# EAGLE library part HDMI_10029449-111RLF (library JOSHUA)
HDMI ( 10029449-111RLF )
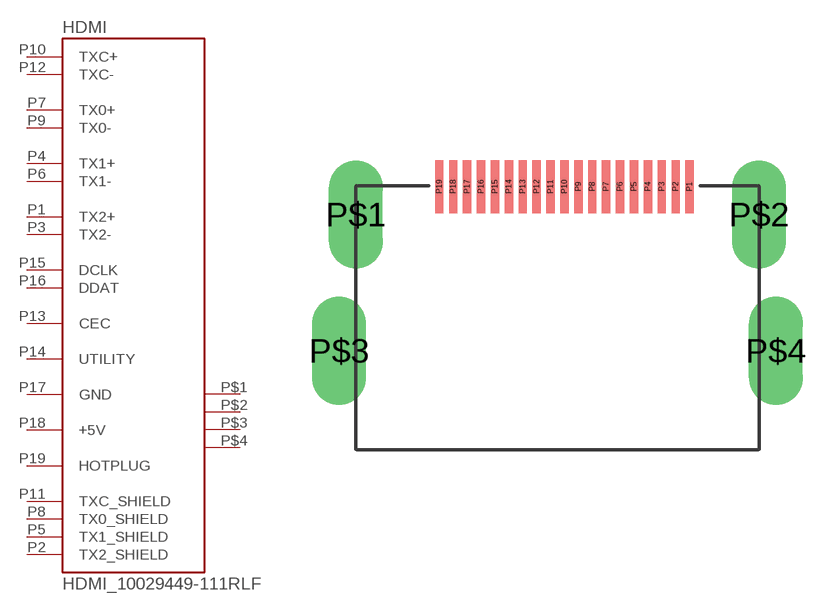
[diagram p1: symbol with the pads of HDMI_MOLEX_10029449; footprint HDMI_MOLEX_10029449]

Designator prefix HDMI

## HDMI_10029449-111RLF  [HDMI_MOLEX_10029449]
P1  TX2+
P2  TX2_SHIELD
P3  TX2-
P4  TX1+
P5  TX1_SHIELD
P6  TX1-
P7  TX0+
P8  TX0_SHIELD
P9  TX0-
P10  TXC+
P11  TXC_SHIELD
P12  TXC-
P13  CEC
P14  UTILITY
P15  DCLK
P16  DDAT
P17  GND
P18  +5V
P19  HOTPLUG
P$1  P$1
P$2  P$2
P$3  P$3
P$4  P$4

## Footprint HDMI_MOLEX_10029449 (pad centres in mm)
smd 0.3 x 1.9: P1 4.75,1; P2 4.25,1; P3 3.75,1; P4 3.25,1; P5 2.75,1; P6 2.25,1; P7 1.75,1; P8 1.25,1; P9 0.75,1; P10 0.25,1; P11 -0.25,1; P12 -0.75,1; P13 -1.25,1; P14 -1.75,1; P15 -2.25,1; P16 -2.75,1; P17 -3.25,1; P18 -3.75,1; P19 -4.25,1
drill 1.3 long: P$1 -7.25,0; P$2 7.25,0; P$3 -7.85,-4.9; P$4 7.85,-4.9